# EAGLE library part OLED_SPI (library oled)
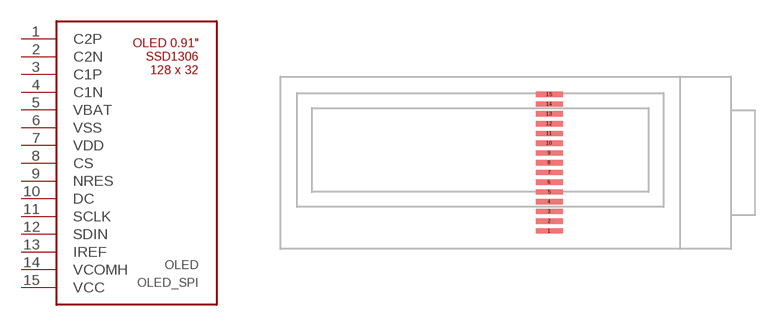
[diagram p2: symbol with the pads of OLED_SPI_091; footprint OLED_SPI_091]

Designator prefix OLED

## OLED_SPI_091  [OLED_SPI_091]
1  C2P  pas
2  C2N  pas
3  C1P  pas
4  C1N  pas
5  VBAT  pwr
6  VSS  pwr
7  VDD  pwr
8  CS  in
9  NRES  in
10  DC  in
11  SCLK  in
12  SDIN  in
13  IREF  pas
14  VCOMH  pas
15  VCC  pwr

## Footprint OLED_SPI_091 (pad centres in mm)
smd 1.8 x 0.35: 1 0,-4.55; 2 0,-3.9; 3 0,-3.25; 4 0,-2.6; 5 0,-1.95; 6 0,-1.3; 7 0,-0.65; 8 0,0; 9 0,0.65; 10 0,1.3; 11 0,1.95; 12 0,2.6; 13 0,3.25; 14 0,3.9; 15 0,4.55